# EAGLE library part LIS2HH12 (library Display_Custom)
MEMS digital output motion sensor LIS2HH12 ST Semiconductor I2C SPI +- 8g max 800Hz sample rate http://www.st.com/content/ccc/resource/technical/document/datasheet/c9/16/f2/79/ca/31/47/89/DM00096789.pdf/files/DM00096789.pdf/jcr:content/translations/en.DM00096789.pdf
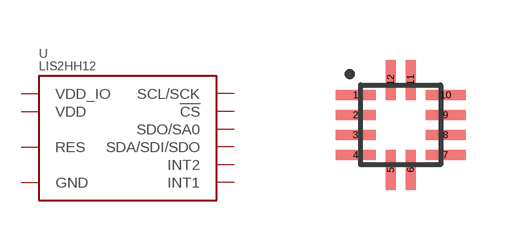
[diagram p5: symbol with the pads of LGA-12; footprint LGA-12]

Designator prefix -

## LIS2HH12  [LGA-12]
1  SCL/SCK
2  !CS
3  SDO/SA0
4  SDA/SDI/SDO
5  RES
6  GND
7  GND
8  GND
9  VDD
10  VDD_IO
11  INT2
12  INT1

## Footprint LGA-12 (pad centres in mm)
LGA 12 MEMS Package
smd 1 x 0.25: 1 -1.125,0.75; 2 -1.125,0.25; 3 -1.125,-0.25; 4 -1.125,-0.75; 7 1.125,-0.75; 8 1.125,-0.25; 9 1.125,0.25; 10 1.125,0.75
smd 0.25 x 1: 5 -0.25,-1.125; 6 0.25,-1.125; 11 0.25,1.125; 12 -0.25,1.125